# Altium footprint library 61801525123.PcbLib: 1 footprints
Each footprint in its own frame and in the unit in brackets; x right, y up, seen from the top. Pads: shape width x height; smd on the part's side, far side on the other; paste and mask are expansions set on the pad; w line width, h text height; cw(c..) or ccw(c..) is an arc to the next point about the centre after c.
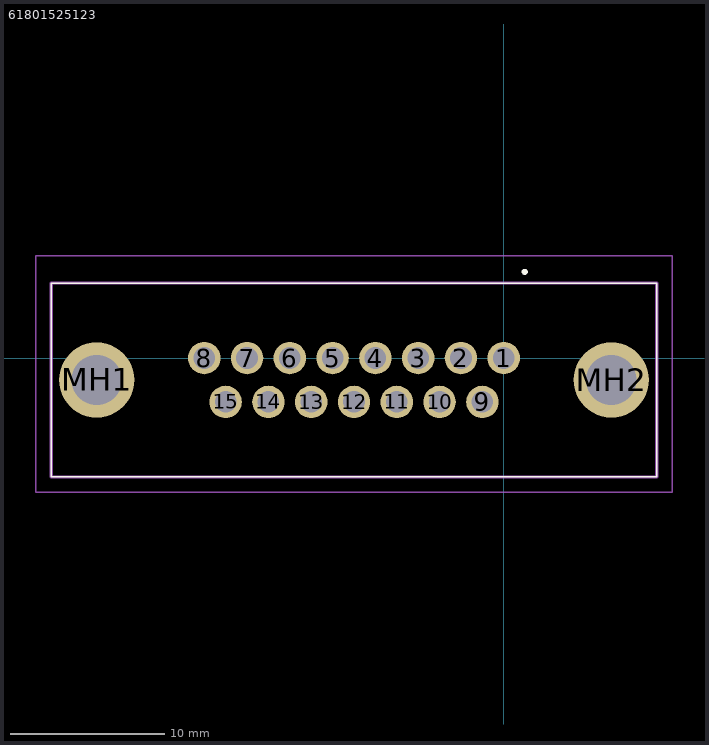
[diagram p0: the footprint, top view; thin cyan lines are the x and y axes]

## 61801525123 [mm]
pads (17):
  round 2.1 hole 1.4: 1(0,0) 2(-2.77,0) 3(-5.54,0) 4(-8.31,0) 5(-11.08,0) 6(-13.85,0) 7(-16.62,0) 8(-19.39,0) 9(-1.385,-2.84) 10(-4.155,-2.84) 11(-6.925,-2.84) 12(-9.695,-2.84) 13(-12.465,-2.84) 14(-15.235,-2.84) 15(-18.005,-2.84)
  round 4.875 hole 3.25: MH1(-26.355,-1.42) MH2(6.965,-1.42)
Top Overlay:
  lines w0.1: -29.295,-7.695 9.905,-7.695 9.905,4.855 -29.295,4.855 -29.295,-7.695
  lines w0.3: 1.305,5.58 1.305,5.58 ; 1.305,5.58 ccw(c1.355,5.58) 1.405,5.58 ; 1.305,5.58 cw(c1.355,5.58) 1.405,5.58 ; 1.405,5.58 1.405,5.58
Mechanical 15:
  lines w0.2: -29.295,-7.695 9.905,-7.695 9.905,4.855 -29.295,4.855 -29.295,-7.695
Mechanical 20:
  lines w0.1: -30.295,-8.695 10.905,-8.695 10.905,6.63 -30.295,6.63 -30.295,-8.695